# Altium schematic symbol library Esqlib.SchLib: 44 symbols (part 1 of 5)
Pins are listed as number, name and electrical type; pins without a type are passive.

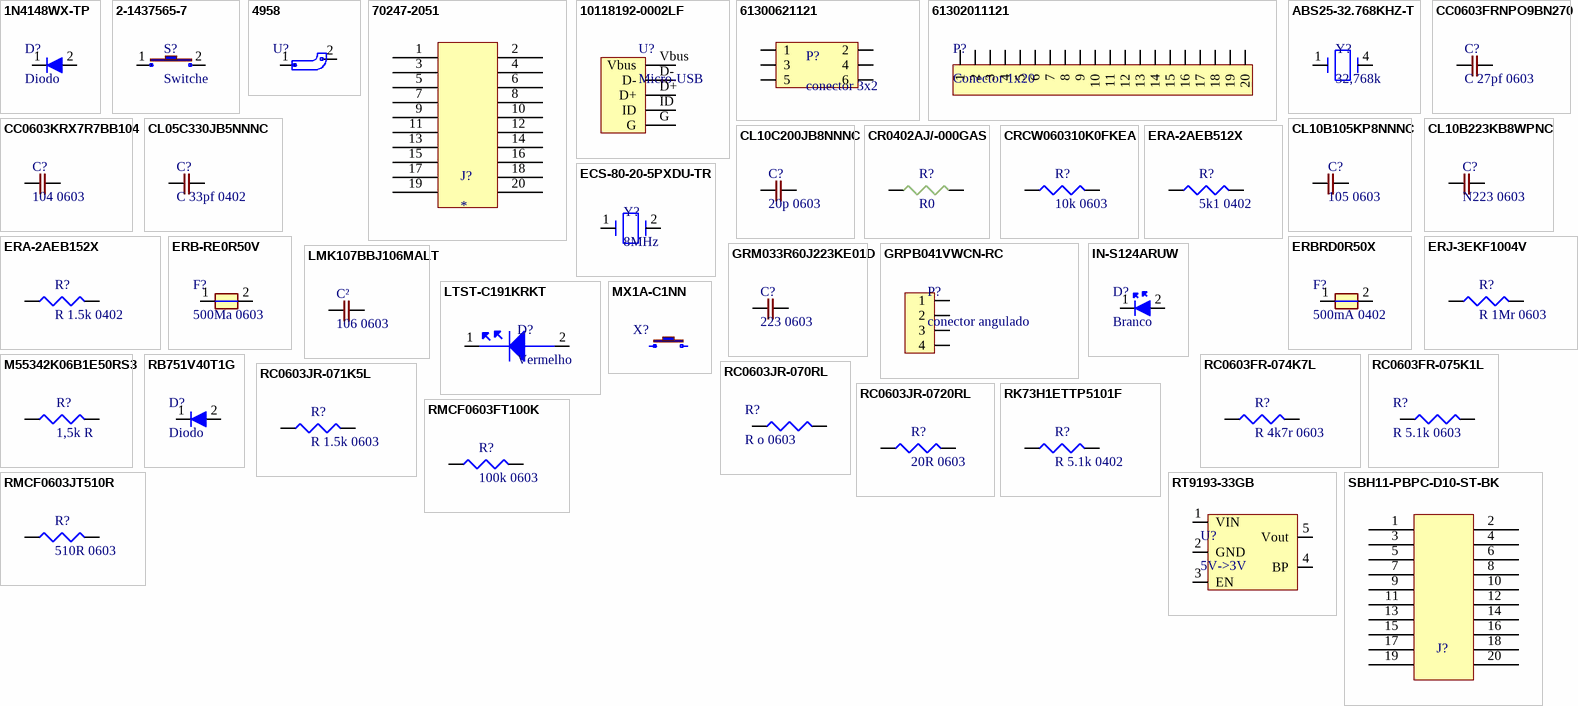
[diagram p0: symbols 1N4148WX-TP to SBH11-PBPC-D10-ST-BK]

## 1N4148WX-TP
designator D?, comment Diodo
Diode, Rectifier, Fast, Vr 100V, If 300MA, Pkg SOD-323, Vf 1V, Trr 4NS, Cj 4PF, Tj +150C; Manufacturer: MCC; Manufacturer Part Number: 1N4148WX-TP; Average Rectified Current: 150mA; Value: 2pF; Element Configuration: Single; Max Forward Surge Current (Ifsm): 2A; Max Junction Temperature (Tj): 150°C; Max Power Dissipation: 200mW; Max Reverse Leakage Current: 5µA; Max Reverse Voltage (DC): 75V; Number of Elements: 1; Peak Reverse Current: 1µA; Polarity: Standard; Supplier: DigiKey; Supplier Part Number: 1N4148WXTPMSCT-ND; RoHS: Compliant; Category: Rectifier Diodes; Stock: 1138604; Pricing: 1=0,1, 10=0,061, 100=0,0373, 500=0,02676, 1000=0,02334 (USD); China RoHS: Compliant; Current Rating: 300mA; Forward Current: 300mA; Forward Voltage: 1V; Height: 1.15mm; Lead Free: Lead Free; Length: 1.8mm; Lifecycle Status: Production; Max Operating Temperature: 150°C; Max Output current: 150mA; Max Repetitive Reverse Voltage (Vrrm): 100V; Max Surge Current: 2A; Min Operating Temperature: -55°C; Mounting Technology: Surface Mount; Pins: 2; Number of Terminals: 2; Output Current: 300mA; Packaging: Cut Tape; Peak Non-Repetitive Surge Current: 2A; Power Dissipation: 200mW; Radiation Hardening: No; REACH SVHC: Yes; Recovery Time: 4ns; Reverse Recovery Time: 4ns; Reverse Standoff Voltage: 75V; Reverse Voltage: 100V; Schedule B: 8541100070, 8541100080, 8541100080|8541100080|8541100080|8541100080|8541100080; Voltage Rating (DC): 75V; Width: 1.35mm; ComponentLink1URL: https://datasheet.octopart.com:443/1N4148WX-TP-MCC-datasheet-179877993.pdf?src-supplier=IHS; ComponentLink1Description: https://datasheet.octopart.com:443/1N4148WX-TP-MCC-datasheet-179877993.pdf?src-supplier=IHS; ComponentLink2URL: https://datasheet.octopart.com:443/1N4148WX-TP-Micro-Commercial-datasheet-72882.pdf?src-supplier=Farnell; ComponentLink2Description: https://datasheet.octopart.com:443/1N4148WX-TP-Micro-Commercial-datasheet-72882.pdf?src-supplier=Farnell; ComponentLink3URL: https://datasheet.octopart.com:443/1N4148WX-TP-MCC-datasheet-136280619.pdf?src-supplier=TME; ComponentLink3Description: https://datasheet.octopart.com:443/1N4148WX-TP-MCC-datasheet-136280619.pdf?src-supplier=TME; ComponentLink4URL: https://datasheet.octopart.com:443/1N4148WX-TP-MCC-datasheet-133511571.pdf?src-supplier=Future+Electronics; ComponentLink4Description: https://datasheet.octopart.com:443/1N4148WX-TP-MCC-datasheet-133511571.pdf?src-supplier=Future+Electronics; ComponentLink5URL: https://datasheet.octopart.com:443/1N4148WX-TP-Micro-Commercial-datasheet-13551187.pdf?src-supplier=Future+Electronics; ComponentLink5Description: https://datasheet.octopart.com:443/1N4148WX-TP-Micro-Commercial-datasheet-13551187.pdf?src-supplier=Future+Electronics; ComponentLink6URL: https://datasheet.octopart.com:443/1N4148WX-TP-MCC-datasheet-8327246.pdf?src-supplier=Future+Electronics; ComponentLink6Description: https://datasheet.octopart.com:443/1N4148WX-TP-MCC-datasheet-8327246.pdf?src-supplier=Future+Electronics; ComponentLink7URL: https://datasheet.octopart.com:443/1N4148WX-TP-MCC-datasheet-9772772.pdf?src-supplier=RS+(Formerly+Allied+Electronics); ComponentLink7Description: https://datasheet.octopart.com:443/1N4148WX-TP-MCC-datasheet-9772772.pdf?src-supplier=RS+(Formerly+Allied+Electronics); ComponentLink8URL: https://datasheet.octopart.com:443/1N4148WX-TP-MCC-datasheet-60845.pdf?src-supplier=Mouser; ComponentLink8Description: https://datasheet.octopart.com:443/1N4148WX-TP-MCC-datasheet-60845.pdf?src-supplier=Mouser
footprint Diodo
pins: 1, 2

## 2-1437565-7
designator S?, comment Switche
Alcoswitch, Switch, Tactile, Mico-Miniature, Pushbutton, SPST, Surface Mount, FSM2JSMA; Manufacturer: TE Connectivity; Manufacturer Part Number: 2-1437565-7; Manufacturer Lifecycle Status: ACTIVE; Actuator Length: 700µm; Actuator Material: Polyamide; Connector Type: SMD/SMT; Contact Current Rating: 50mA; Contact Resistance: 100mΩ; Electrical Life: 100kcycles; Max Voltage Rating (DC): 24V; Number of Positions: 1; Operating Force: 1.568N; Sealable: MOLDED; Supplier: DigiKey; Supplier Part Number: 450-1130-ND; RoHS: Compliant; Category: Pushbutton Switches; Stock: 20346; Pricing: 1=0,27, 10=0,235, 25=0,22, 100=0,1972, 250=0,1828, 750=0,16679, 1500=0,15754, 3000=0,14905, 5250=0,14276 (USD); Case/Package: SMD/SMT; China RoHS: Compliant; Color: Brown; Contact Material: Copper; Contact Plating: Silver; Depth: 10mm; ELV: Compliant; Height: 3.6mm; Housing Material: Polyamide; Insulation Resistance: 100MΩ; Lead Free: Lead Free; Length: 6mm; Life (Cycles): 100kcycles; Lifecycle Status: Production; Max Current Rating: 50mA; Max Operating Temperature: 85°C; Min Operating Temperature: -35°C; Mounting Technology: Surface Mount; Pins: 4; Packaging: Bulk; Radiation Hardening: No; REACH SVHC: Yes; Termination: Gull Wing; Throw Configuration: SPST; Voltage Rating (DC): 24V; ComponentLink1URL: https://datasheet.octopart.com:443/2-1437565-7-TE-Connectivity-datasheet-179987016.pdf?src-supplier=IHS; ComponentLink1Description: https://datasheet.octopart.com:443/2-1437565-7-TE-Connectivity-datasheet-179987016.pdf?src-supplier=IHS; ComponentLink2URL: https://datasheet.octopart.com:443/2-1437565-7-TE-Connectivity---AMP-datasheet-181273687.pdf?src-supplier=IHS; ComponentLink2Description: https://datasheet.octopart.com:443/2-1437565-7-TE-Connectivity---AMP-datasheet-181273687.pdf?src-supplier=IHS; ComponentLink3URL: https://datasheet.octopart.com:443/2-1437565-7-TE-Connectivity---Alcoswitch-datasheet-181441799.pdf?src-supplier=IHS; ComponentLink3Description: https://datasheet.octopart.com:443/2-1437565-7-TE-Connectivity---Alcoswitch-datasheet-181441799.pdf?src-supplier=IHS; ComponentLink4URL: https://datasheet.octopart.com:443/2-1437565-7-TE-Connectivity-datasheet-62056516.pdf?src-supplier=Sager+Electronics; ComponentLink4Description: https://datasheet.octopart.com:443/2-1437565-7-TE-Connectivity-datasheet-62056516.pdf?src-supplier=Sager+Electronics; ComponentLink5URL: https://datasheet.octopart.com:443/2-1437565-7-TE-Connectivity-datasheet-10294628.pdf?src-supplier=ODG+(Origin+Data+Global); ComponentLink5Description: https://datasheet.octopart.com:443/2-1437565-7-TE-Connectivity-datasheet-10294628.pdf?src-supplier=ODG+(Origin+Data+Global); ComponentLink6URL: https://datasheet.octopart.com:443/FSM2JSMA-Tyco-Electronics-datasheet-11083199.pdf?src-supplier=TE+Connectivity; ComponentLink6Description: https://datasheet.octopart.com:443/FSM2JSMA-Tyco-Electronics-datasheet-11083199.pdf?src-supplier=TE+Connectivity; ComponentLink7URL: https://datasheet.octopart.com:443/2-1437565-7-TE-Connectivity-datasheet-11868940.pdf?src-supplier=Newark; ComponentLink7Description: https://datasheet.octopart.com:443/2-1437565-7-TE-Connectivity-datasheet-11868940.pdf?src-supplier=Newark; ComponentLink8URL: https://datasheet.octopart.com:443/FSM2JSMA-Tyco-Electronics-datasheet-160371.pdf?src-supplier=Electro+Sonic; ComponentLink8Description: https://datasheet.octopart.com:443/FSM2JSMA-Tyco-Electronics-datasheet-160371.pdf?src-supplier=Electro+Sonic; ComponentLink9URL: https://datasheet.octopart.com:443/2-1437565-7-TE-Connectivity-datasheet-140613559.pdf?src-supplier=TME; ComponentLink9Description: https://datasheet.octopart.com:443/2-1437565-7-TE-Connectivity-datasheet-140613559.pdf?src-supplier=TME; ComponentLink10URL: https://datasheet.octopart.com:443/FSM2JSMA-Tyco-Electronics-datasheet-13478066.pdf?src-supplier=Farnell; ComponentLink10Description: https://datasheet.octopart.com:443/FSM2JSMA-Tyco-Electronics-datasheet-13478066.pdf?src-supplier=Farnell; ComponentLink11URL: https://datasheet.octopart.com:443/FSM2JSMA-Tyco-Electronics-datasheet-5373570.pdf?src-supplier=Farnell; ComponentLink11Description: https://datasheet.octopart.com:443/FSM2JSMA-Tyco-Electronics-datasheet-5373570.pdf?src-supplier=Farnell; ComponentLink12URL: https://datasheet.octopart.com:443/FSM2JSMA-Tyco-Electronics-datasheet-503327.pdf?src-supplier=Farnell; ComponentLink12Description: https://datasheet.octopart.com:443/FSM2JSMA-Tyco-Electronics-datasheet-503327.pdf?src-supplier=Farnell; ComponentLink13URL: https://datasheet.octopart.com:443/FSM2JSMA.-Tyco-Electronics-datasheet-528763.pdf?src-supplier=Farnell; ComponentLink13Description: https://datasheet.octopart.com:443/FSM2JSMA.-Tyco-Electronics-datasheet-528763.pdf?src-supplier=Farnell; ComponentLink14URL: https://datasheet.octopart.com:443/FSM2JSMA-Tyco-Electronics-datasheet-9919679.pdf?src-supplier=RS+(Formerly+Allied+Electronics); ComponentLink14Description: https://datasheet.octopart.com:443/FSM2JSMA-Tyco-Electronics-datasheet-9919679.pdf?src-supplier=RS+(Formerly+Allied+Electronics); ComponentLink15URL: https://datasheet.octopart.com:443/2-1437565-7-TE-Connectivity-datasheet-8220814.pdf?src-supplier=Jameco; ComponentLink15Description: https://datasheet.octopart.com:443/2-1437565-7-TE-Connectivity-datasheet-8220814.pdf?src-supplier=Jameco; ComponentLink16URL: https://datasheet.octopart.com:443/2-1437565-7-TE-Connectivity---AMP-datasheet-189108451.pdf?src-supplier=Master+Electronics; ComponentLink16Description: https://datasheet.octopart.com:443/2-1437565-7-TE-Connectivity---AMP-datasheet-189108451.pdf?src-supplier=Master+Electronics; ComponentLink17URL: http://sigma.octopart.com:80/14555870/rohs_certificate/Alcoswitch-FSM2JSMA.pdf?src-supplier=Compliance+Statements; ComponentLink17Description: http://sigma.octopart.com:80/14555870/rohs_certificate/Alcoswitch-FSM2JSMA.pdf?src-supplier=Compliance+Statements; ComponentLink18URL: http://sigma.octopart.com:80/41606613/materials_sheet/TE-Connectivity-FSM2JSMA.pdf?src-supplier=Compliance+Statements; ComponentLink18Description: http://sigma.octopart.com:80/41606613/materials_sheet/TE-Connectivity-FSM2JSMA.pdf?src-supplier=Compliance+Statements; ComponentLink19URL: http://sigma.octopart.com:80/78344504/materials_sheet/TE-Connectivity-FSM2JSMA.pdf?src-supplier=Compliance+Statements; ComponentLink19Description: http://sigma.octopart.com:80/78344504/materials_sheet/TE-Connectivity-FSM2JSMA.pdf?src-supplier=Compliance+Statements
footprint swith
pins: 1, 2

## 4958
designator U?, comment suporte hot-swap  (value not drawn)
Kailh Switch Sockets For Mx-Compatible Mechanical Keys - 20 Pack |Adafruit 4958; Manufacturer: Adafruit Industries; Manufacturer Part Number: 4958; Supplier: DigiKey; Supplier Part Number: 1528-4958-ND; Category: Switch Accessories; Stock: 66; Pricing: 1=4,95 (USD)
footprint Suporte Hot-Swap
pins: 1, 2

## 70247-2051
designator J?
Conn Shrouded Header (4 Sides) HDR 20 POS 2.54mm Solder RA Side Entry Thru-HoleC-Grid Tray; Manufacturer: Molex; Manufacturer Part Number: 70247-2051; Manufacturer Lifecycle Status: ACTIVE; Connector Type: Male Pin; Contact Resistance: 20mΩ; Current Rating: 2.5A; Gender: Male; Glow Wire Compliant: Non-compliant; Insulation Resistance: 12GΩ; Lead Length: 3.05mm; Mating Post Length: 6.1mm; Max Current Rating: 2A; Max Voltage Rating (AC): 125V; Max Voltage Rating (DC): 250V; Number of Circuits: 16; Number of Contacts: 20; Plating: Tin; Plating Thickness: 381nm; Supplier: DigiKey; Supplier Part Number: 23-0702472051-ND; RoHS: Compliant; Category: Headers and Wire Housings; Stock: 2615; Pricing: 1=3,89, 10=3,305, 100=2,809, 500=2,50744, 1000=2,38782 (USD); China RoHS: Compliant; Color: Black; Contact Gender: Male; Contact Material: Gold, Nickel; Contact Mating Length: 6.096mm; Contact Plating: Gold; Country of Origin: SK; Depth: 6.3mm; ELV: Compliant; Flammability Rating: UL94 V-0; Height: 7.6mm; Housing Color: Black; Housing Material: Polyester; Lead Free: Lead Free; Lead Pitch: 2.54mm; Length: 8.65mm; Lifecycle Status: Production; Material: Polyester; Max Operating Temperature: 120°C; Min Operating Temperature: -55°C; Mounting Technology: Surface Mount, Through Hole; Pins: 20; Number of Positions: 20; Number of Rows: 2; Orientation: Right Angle; Pitch: 2.54mm; Radiation Hardening: No; REACH SVHC: Yes; Row Spacing: 2.54mm; Terminal Pitch: 2.54mm; Termination: Solder; Voltage Rating: 250V; Voltage Rating (DC): 250V; ComponentLink1URL: https://datasheet.octopart.com:443/70247-2051-Molex-datasheet-165345562.pdf?src-supplier=IHS; ComponentLink1Description: https://datasheet.octopart.com:443/70247-2051-Molex-datasheet-165345562.pdf?src-supplier=IHS; ComponentLink2URL: https://datasheet.octopart.com:443/70247-2051-Molex-datasheet-13786369.pdf?src-supplier=Molex; ComponentLink2Description: https://datasheet.octopart.com:443/70247-2051-Molex-datasheet-13786369.pdf?src-supplier=Molex; ComponentLink3URL: https://sigma.octopart.com:443/15650526/technical_drawing/Molex-70247-2051.pdf?src-supplier=Molex; ComponentLink3Description: https://sigma.octopart.com:443/15650526/technical_drawing/Molex-70247-2051.pdf?src-supplier=Molex; ComponentLink4URL: https://datasheet.octopart.com:443/702472051-Molex-datasheet-8335392.pdf?src-supplier=Verical; ComponentLink4Description: https://datasheet.octopart.com:443/702472051-Molex-datasheet-8335392.pdf?src-supplier=Verical; ComponentLink5URL: https://datasheet.octopart.com:443/70247-2051-Molex-datasheet-154757683.pdf?src-supplier=Master+Electronics; ComponentLink5Description: https://datasheet.octopart.com:443/70247-2051-Molex-datasheet-154757683.pdf?src-supplier=Master+Electronics; ComponentLink6URL: https://datasheet.octopart.com:443/70247-2051-Molex-datasheet-62105721.pdf?src-supplier=Electro+Sonic; ComponentLink6Description: https://datasheet.octopart.com:443/70247-2051-Molex-datasheet-62105721.pdf?src-supplier=Electro+Sonic; ComponentLink7URL: https://datasheet.octopart.com:443/70247-2051-Molex-datasheet-37171976.pdf?src-supplier=Electro+Sonic; ComponentLink7Description: https://datasheet.octopart.com:443/70247-2051-Molex-datasheet-37171976.pdf?src-supplier=Electro+Sonic; ComponentLink8URL: https://datasheet.octopart.com:443/70247-2051-Molex-datasheet-28833383.pdf?src-supplier=Electro+Sonic; ComponentLink8Description: https://datasheet.octopart.com:443/70247-2051-Molex-datasheet-28833383.pdf?src-supplier=Electro+Sonic; ComponentLink9URL: https://datasheet.octopart.com:443/702472051-Molex-datasheet-8221744.pdf?src-supplier=Jameco; ComponentLink9Description: https://datasheet.octopart.com:443/702472051-Molex-datasheet-8221744.pdf?src-supplier=Jameco; ComponentLink10URL: https://datasheet.octopart.com:443/70247-2051-Molex-datasheet-141297.pdf?src-supplier=DigiKey; ComponentLink10Description: https://datasheet.octopart.com:443/70247-2051-Molex-datasheet-141297.pdf?src-supplier=DigiKey; ComponentLink11URL: http://sigma.octopart.com:80/15650546/rohs_certificate/Molex-70247-2051.pdf?src-supplier=Compliance+Statements; ComponentLink11Description: http://sigma.octopart.com:80/15650546/rohs_certificate/Molex-70247-2051.pdf?src-supplier=Compliance+Statements; ComponentLink12URL: http://sigma.octopart.com:80/reach_statement/Molex-company-74.pdf?src-supplier=Compliance+Statements; ComponentLink12Description: http://sigma.octopart.com:80/reach_statement/Molex-company-74.pdf?src-supplier=Compliance+Statements; ComponentLink13URL: http://sigma.octopart.com:80/rohs_statement/Molex-company-73.pdf?src-supplier=Compliance+Statements; ComponentLink13Description: http://sigma.octopart.com:80/rohs_statement/Molex-company-73.pdf?src-supplier=Compliance+Statements; ComponentLink14URL: http://sigma.octopart.com:80/conflict_mineral_statement/Molex-company-72.pdf?src-supplier=Compliance+Statements; ComponentLink14Description: http://sigma.octopart.com:80/conflict_mineral_statement/Molex-company-72.pdf?src-supplier=Compliance+Statements
footprint Conector 20 pinos angulado p/ programação
pins: 1, 2, 3, 4, 5, 6, 7, 8, 9, 10, 11, 12, 13, 14, 15, 16, 17, 18, 19, 20

## 10118192-0002LF
designator U?, comment Micro-USB
USB Connector, 5 Contact(s), Female, Right Angle, Surface Mount Terminal, Locking, Receptacle; Manufacturer: Amphenol Communications Solutions; Manufacturer Part Number: 10118192-0002LF; Contact Resistance: 30mΩ; Current Rating: 1.8A; Dielectric Material: Polyethylene; Insulation Resistance: 1GΩ; Number of Contacts: 5; Number of Ports: 1; USB Standard: USB 2.0; Supplier: DigiKey; Supplier Part Number: 609-5379-1-ND; RoHS: Compliant; Category: USB Connectors; Stock: 25893; Pricing: 1=0,4, 10=0,34, 25=0,3184, 50=0,3034, 100=0,2888, 250=0,27072, 500=0,25776 (USD); China RoHS: Compliant; Contact Gender: Female; Contact Material: Gold, Nickel; Gender: Receptacle; Height: 2.96mm; Lifecycle Status: Production; Max Operating Temperature: 80°C; Min Operating Temperature: -30°C; Pins: 5; Number of Rows: 1; Orientation: Right Angle; REACH SVHC: Yes; Shell Finish: Tin; Shell Material: Stainless Steel; Terminal Pitch: 650µm; ComponentLink1URL: https://datasheet.octopart.com:443/10118192-0002LF-Amphenol-Communications-Solutions-datasheet-55953129.pdf?src-supplier=Electro+Sonic; ComponentLink1Description: https://datasheet.octopart.com:443/10118192-0002LF-Amphenol-Communications-Solutions-datasheet-55953129.pdf?src-supplier=Electro+Sonic; ComponentLink2URL: https://datasheet.octopart.com:443/10118192-0002LF-Amphenol-ICC-datasheet-96019471.pdf?src-supplier=Upverter; ComponentLink2Description: https://datasheet.octopart.com:443/10118192-0002LF-Amphenol-ICC-datasheet-96019471.pdf?src-supplier=Upverter
footprint Micro usb
pins: D+, D-, G, ID, Vbus

## 61300621121
designator P?, comment conector 3x2
THT Vertical Pin Header WR-PHD, Pitch 2.54 mm, Dual Row, 6 pins; Manufacturer: Wurth Elektronik; Manufacturer Part Number: 61300621121; Connector Type: Male Pin; Contact Resistance: 20mΩ; Current Rating: 3A; Gender: Male; Number of Contacts: 6; Operating Supply Voltage: 250V; Pitch: 2.54mm; Supplier: DigiKey; Supplier Part Number: 732-5295-ND; RoHS: Compliant; Category: Headers and Wire Housings; Stock: 16905; Pricing: 1=0,51, 10=0,436, 25=0,3636, 50=0,3032, 100=0,2754, 1000=0,2502 (USD); Color: Black; Contact Material: Gold; Contact Mating Length: 5.9944mm; Contact Plating: Gold; Height: 8.89mm; Lead Pitch: 2.54mm; Max Operating Temperature: 105°C; Min Operating Temperature: -40°C; Mounting Technology: Through Hole; Pins: 6; Number of Positions: 6; Number of Rows: 2; Orientation: Vertical; Packaging: Bulk; Row Spacing: 2.54mm; Termination: Solder; Voltage Rating: 250V; ComponentLink1URL: https://datasheet.octopart.com:443/61300621121-W%C3%BCrth-Elektronik-datasheet-45185731.pdf?src-supplier=Upverter; ComponentLink1Description: https://datasheet.octopart.com:443/61300621121-W%C3%BCrth-Elektronik-datasheet-45185731.pdf?src-supplier=Upverter; ComponentLink2URL: https://datasheet.octopart.com:443/61300621121-W%C3%BCrth-Elektronik-datasheet-149524079.pdf?src-supplier=Farnell; ComponentLink2Description: https://datasheet.octopart.com:443/61300621121-W%C3%BCrth-Elektronik-datasheet-149524079.pdf?src-supplier=Farnell; ComponentLink3URL: https://datasheet.octopart.com:443/61300621121-W%C3%BCrth-Elektronik-datasheet-10693404.pdf?src-supplier=Newark; ComponentLink3Description: https://datasheet.octopart.com:443/61300621121-W%C3%BCrth-Elektronik-datasheet-10693404.pdf?src-supplier=Newark
footprint conector 3x2
pins: 1, 2, 3, 4, 5, 6

## 61302011121
designator P?, comment Conector 1x20
THT Vertical Pin Header WR-PHD, Pitch 2.54 mm, Single Row, 20 pins; Manufacturer: Wurth Elektronik; Manufacturer Part Number: 61302011121; Connector Type: Male Pin; Contact Resistance: 20mΩ; Current Rating: 3A; Gender: Male; Number of Contacts: 20; Operating Supply Voltage: 250V; Pitch: 2.54mm; Supplier: DigiKey; Supplier Part Number: 732-5329-ND; RoHS: Compliant; Category: Headers and Wire Housings; Stock: 2209; Pricing: 1=1,1, 10=0,935, 25=0,7796, 50=0,6498, 100=0,5913, 500=0,54 (USD); Color: Black; Contact Material: Copper; Contact Mating Length: 5.9944mm; Contact Plating: Gold; Lead Pitch: 2.54mm; Mounting Technology: Through Hole; Pins: 20; Number of Positions: 20; Number of Rows: 1; Orientation: Vertical; Packaging: Bulk; Termination: Solder; ComponentLink1URL: https://datasheet.octopart.com:443/61302011121-W%C3%BCrth-Elektronik-datasheet-44382959.pdf?src-supplier=Wurth+Elektronik; ComponentLink1Description: https://datasheet.octopart.com:443/61302011121-W%C3%BCrth-Elektronik-datasheet-44382959.pdf?src-supplier=Wurth+Elektronik; ComponentLink2URL: https://datasheet.octopart.com:443/61302011121-W%C3%BCrth-Elektronik-datasheet-149524181.pdf?src-supplier=Farnell; ComponentLink2Description: https://datasheet.octopart.com:443/61302011121-W%C3%BCrth-Elektronik-datasheet-149524181.pdf?src-supplier=Farnell; ComponentLink3URL: https://datasheet.octopart.com:443/61302011121-W%C3%BCrth-Elektronik-datasheet-21154836.pdf?src-supplier=element14+APAC; ComponentLink3Description: https://datasheet.octopart.com:443/61302011121-W%C3%BCrth-Elektronik-datasheet-21154836.pdf?src-supplier=element14+APAC
footprint Conector 1x20
pins: 1, 2, 3, 4, 5, 6, 7, 8, 9, 10, 11, 12, 13, 14, 15, 16, 17, 18, 19, 20

## ABS25-32.768KHZ-T
designator Y?, comment 32,768k
Crystal, Plastic Molded 32.768Khz, 12.5F, 20Ppm-40+85C, 8 X 4 X 2.5 Rohs Compliant: Yes; Manufacturer: Abracon; Manufacturer Part Number: ABS25-32.768KHZ-T; ESR (Equivalent Series Resistance): 50kΩ; Frequency Stability: 122ppm; Frequency Tolerance: 0.002%; Load Capacitance: 12.5pF; Supplier: DigiKey; Supplier Part Number: 535-9166-1-ND; RoHS: Compliant; Category: Crystals; Stock: 115441; Pricing: 1=0,48, 10=0,418, 25=0,3952, 50=0,379, 100=0,3633, 250=0,3436, 500=0,32894, 1000=0,31574 (USD); Case/Package: SMD/SMT; China RoHS: Non-Compliant; Depth: 3.8mm; Frequency: 32.768kHz; Height: 2.4892mm; Lead Free: Lead Free; Length: 8mm; Lifecycle Status: Production; Max Operating Temperature: 85°C; Min Operating Temperature: -40°C; Mounting Technology: Surface Mount; Pins: 4; Packaging: Cut Tape; Radiation Hardening: No; REACH SVHC: No; Schedule B: 8541600025, 8541600025|8541600025|8541600025|8541600025|8541600025|8541600025|8541600025|8541600025|8541600025, 8541600025|8541600025|8541600025|8541600025|8541600025|8541600025|8541600025|8541600025|8541600025|8541600025, 8541600025|8541600025|8541600025|8541600025|8541600025|8541600025|8541600025|8541600025|8541600025|8541600025|8541600025; ESR: 50kΩ; Termination: SMD/SMT; Tolerance: 0.002%; Width: 3.81mm; ComponentLink1URL: https://datasheet.octopart.com:443/ABS25-32.768KHZ-T-Abracon-datasheet-166807298.pdf?src-supplier=IHS; ComponentLink1Description: https://datasheet.octopart.com:443/ABS25-32.768KHZ-T-Abracon-datasheet-166807298.pdf?src-supplier=IHS; ComponentLink2URL: https://datasheet.octopart.com:443/ABS25-32.768KHZ-T-Abracon-datasheet-181954792.pdf?src-supplier=IHS; ComponentLink2Description: https://datasheet.octopart.com:443/ABS25-32.768KHZ-T-Abracon-datasheet-181954792.pdf?src-supplier=IHS; ComponentLink3URL: https://datasheet.octopart.com:443/ABS25-32.768KHZ-T-Abracon-datasheet-103055944.pdf?src-supplier=JRH+Electronics; ComponentLink3Description: https://datasheet.octopart.com:443/ABS25-32.768KHZ-T-Abracon-datasheet-103055944.pdf?src-supplier=JRH+Electronics; ComponentLink4URL: https://datasheet.octopart.com:443/ABS25-32.768KHZ-T-Abracon-datasheet-11036012.pdf?src-supplier=Sager+Electronics; ComponentLink4Description: https://datasheet.octopart.com:443/ABS25-32.768KHZ-T-Abracon-datasheet-11036012.pdf?src-supplier=Sager+Electronics; ComponentLink5URL: https://datasheet.octopart.com:443/ABS25-32.768KHZ-T-Abracon-datasheet-8792182.pdf?src-supplier=Sager+Electronics; ComponentLink5Description: https://datasheet.octopart.com:443/ABS25-32.768KHZ-T-Abracon-datasheet-8792182.pdf?src-supplier=Sager+Electronics; ComponentLink6URL: https://datasheet.octopart.com:443/ABS25-32.768KHZ-T-Abracon-datasheet-8332207.pdf?src-supplier=Sager+Electronics; ComponentLink6Description: https://datasheet.octopart.com:443/ABS25-32.768KHZ-T-Abracon-datasheet-8332207.pdf?src-supplier=Sager+Electronics; ComponentLink7URL: https://datasheet.octopart.com:443/ABS25-32.768KHZ-T-Abracon-datasheet-32780516.pdf?src-supplier=Newark; ComponentLink7Description: https://datasheet.octopart.com:443/ABS25-32.768KHZ-T-Abracon-datasheet-32780516.pdf?src-supplier=Newark; ComponentLink8URL: https://datasheet.octopart.com:443/ABS25-32.768KHZ-T-Abracon-datasheet-15206622.pdf?src-supplier=TME; ComponentLink8Description: https://datasheet.octopart.com:443/ABS25-32.768KHZ-T-Abracon-datasheet-15206622.pdf?src-supplier=TME; ComponentLink9URL: https://datasheet.octopart.com:443/ABS25-32.768KHZ-T-Abracon-datasheet-7875.pdf?src-supplier=DigiKey; ComponentLink9Description: https://datasheet.octopart.com:443/ABS25-32.768KHZ-T-Abracon-datasheet-7875.pdf?src-supplier=DigiKey; ComponentLink10URL: https://datasheet.octopart.com:443/ABS25-32.768KHZ-T-Abracon-datasheet-164982.pdf?src-supplier=Mouser; ComponentLink10Description: https://datasheet.octopart.com:443/ABS25-32.768KHZ-T-Abracon-datasheet-164982.pdf?src-supplier=Mouser; ComponentLink11URL: https://datasheet.octopart.com:443/ABS25-32.768KHZ-T-Abracon-datasheet-72903.pdf?src-supplier=RS+(Formerly+Allied+Electronics); ComponentLink11Description: https://datasheet.octopart.com:443/ABS25-32.768KHZ-T-Abracon-datasheet-72903.pdf?src-supplier=RS+(Formerly+Allied+Electronics); ComponentLink12URL: https://datasheet.octopart.com:443/ABS25-32.768KHZ-T-Abracon-datasheet-3537.pdf?src-supplier=Farnell; ComponentLink12Description: https://datasheet.octopart.com:443/ABS25-32.768KHZ-T-Abracon-datasheet-3537.pdf?src-supplier=Farnell; ComponentLink13URL: http://sigma.octopart.com:80/conflict_mineral_statement/Abracon-company-27.pdf?src-supplier=Compliance+Statements; ComponentLink13Description: http://sigma.octopart.com:80/conflict_mineral_statement/Abracon-company-27.pdf?src-supplier=Compliance+Statements
footprint cristal de 32,768k
pins: 1, 4

## CC0603FRNPO9BN270
designator C?, comment C 27pf 0603
0603 27 pF 50 V ±1 % Tolerance NP0 SMT Multilayer Ceramic Capacitor; Manufacturer: Yageo Group; Manufacturer Part Number: CC0603FRNPO9BN270; Dielectric: C0G; Insulation Resistance: 10GΩ; Tolerance: 1%; Voltage: 50V; Supplier: DigiKey; Supplier Part Number: 311-3892-1-ND; RoHS: Compliant; Category: Ceramic Capacitors; Stock: 26604; Pricing: 1=0,15, 10=0,086, 50=0,0606, 100=0,0527, 500=0,03964, 1000=0,03562 (USD); Value: 27pF; Case/Package: 0603; Case Code (Imperial): 0603; Case Code (Metric): 1608; China RoHS: Compliant; Composition: Ceramic; Depth: 800µm; Dielectric Material: Ceramic; Halogen Free: Halogen Free; Height: 800µm; Lead Free: Lead Free; Length: 1.6mm; Lifecycle Status: Production; Max Operating Temperature: 125°C; Min Operating Temperature: -55°C; Mounting Technology: Surface Mount; Number of Terminals: 2; Packaging: Tape and Reel; Radiation Hardening: No; REACH SVHC: Yes; Schedule B: 8532240020, 8532240020|8532240020|8532240020|8532240020|8532240020; Termination: SMD/SMT; Thickness: 889µm; Voltage Rating: 50V; Voltage Rating (DC): 50V; Width: 800µm; ComponentLink1URL: https://datasheet.octopart.com:443/CC0603FRNPO9BN270-Yageo-datasheet-182140217.pdf?src-supplier=IHS; ComponentLink1Description: https://datasheet.octopart.com:443/CC0603FRNPO9BN270-Yageo-datasheet-182140217.pdf?src-supplier=IHS; ComponentLink2URL: https://datasheet.octopart.com:443/CC0603FRNPO9BN270-Yageo-datasheet-151948684.pdf?src-supplier=JRH+Electronics; ComponentLink2Description: https://datasheet.octopart.com:443/CC0603FRNPO9BN270-Yageo-datasheet-151948684.pdf?src-supplier=JRH+Electronics; ComponentLink3URL: https://datasheet.octopart.com:443/CC0603FRNPO9BN270-Yageo-datasheet-181967889.pdf?src-supplier=Farnell; ComponentLink3Description: https://datasheet.octopart.com:443/CC0603FRNPO9BN270-Yageo-datasheet-181967889.pdf?src-supplier=Farnell; ComponentLink4URL: https://datasheet.octopart.com:443/CC0603FRNPO9BN270-Yageo-datasheet-137875056.pdf?src-supplier=Future+Electronics; ComponentLink4Description: https://datasheet.octopart.com:443/CC0603FRNPO9BN270-Yageo-datasheet-137875056.pdf?src-supplier=Future+Electronics; ComponentLink5URL: https://datasheet.octopart.com:443/CC0603FRNPO9BN270-Yageo-datasheet-136957424.pdf?src-supplier=Future+Electronics; ComponentLink5Description: https://datasheet.octopart.com:443/CC0603FRNPO9BN270-Yageo-datasheet-136957424.pdf?src-supplier=Future+Electronics; ComponentLink6URL: https://datasheet.octopart.com:443/CC0603FRNPO9BN270-Yageo-datasheet-137700082.pdf?src-supplier=Future+Electronics; ComponentLink6Description: https://datasheet.octopart.com:443/CC0603FRNPO9BN270-Yageo-datasheet-137700082.pdf?src-supplier=Future+Electronics; ComponentLink7URL: https://datasheet.octopart.com:443/CC0603FRNPO9BN270-Yageo-datasheet-78855684.pdf?src-supplier=Future+Electronics; ComponentLink7Description: https://datasheet.octopart.com:443/CC0603FRNPO9BN270-Yageo-datasheet-78855684.pdf?src-supplier=Future+Electronics; ComponentLink8URL: https://datasheet.octopart.com:443/CC0603FRNPO9BN270-Yageo-datasheet-16730043.pdf?src-supplier=Future+Electronics; ComponentLink8Description: https://datasheet.octopart.com:443/CC0603FRNPO9BN270-Yageo-datasheet-16730043.pdf?src-supplier=Future+Electronics; ComponentLink9URL: https://datasheet.octopart.com:443/CC0603FRNPO9BN270-Yageo-datasheet-12589826.pdf?src-supplier=Future+Electronics; ComponentLink9Description: https://datasheet.octopart.com:443/CC0603FRNPO9BN270-Yageo-datasheet-12589826.pdf?src-supplier=Future+Electronics; ComponentLink10URL: https://datasheet.octopart.com:443/CC0603FRNPO9BN270-Yageo-datasheet-10406438.pdf?src-supplier=Future+Electronics; ComponentLink10Description: https://datasheet.octopart.com:443/CC0603FRNPO9BN270-Yageo-datasheet-10406438.pdf?src-supplier=Future+Electronics; ComponentLink11URL: https://datasheet.octopart.com:443/CC0603FRNPO9BN270-Yageo-datasheet-8817079.pdf?src-supplier=Future+Electronics; ComponentLink11Description: https://datasheet.octopart.com:443/CC0603FRNPO9BN270-Yageo-datasheet-8817079.pdf?src-supplier=Future+Electronics; ComponentLink12URL: https://datasheet.octopart.com:443/CC0603FRNPO9BN270-Yageo-datasheet-8324240.pdf?src-supplier=Future+Electronics; ComponentLink12Description: https://datasheet.octopart.com:443/CC0603FRNPO9BN270-Yageo-datasheet-8324240.pdf?src-supplier=Future+Electronics; ComponentLink13URL: https://datasheet.octopart.com:443/CC0603FRNPO9BN270-Yageo-datasheet-504625.pdf?src-supplier=Future+Electronics; ComponentLink13Description: https://datasheet.octopart.com:443/CC0603FRNPO9BN270-Yageo-datasheet-504625.pdf?src-supplier=Future+Electronics; ComponentLink14URL: https://datasheet.octopart.com:443/CC0603FRNPO9BN270-Yageo-datasheet-5321569.pdf?src-supplier=Future+Electronics; ComponentLink14Description: https://datasheet.octopart.com:443/CC0603FRNPO9BN270-Yageo-datasheet-5321569.pdf?src-supplier=Future+Electronics; ComponentLink15URL: http://sigma.octopart.com:80/conflict_mineral_statement/Yageo-company-3.pdf?src-supplier=Compliance+Statements; ComponentLink15Description: http://sigma.octopart.com:80/conflict_mineral_statement/Yageo-company-3.pdf?src-supplier=Compliance+Statements; ComponentLink16URL: http://sigma.octopart.com:80/rohs_statement/Yageo-company-2.pdf?src-supplier=Compliance+Statements; ComponentLink16Description: http://sigma.octopart.com:80/rohs_statement/Yageo-company-2.pdf?src-supplier=Compliance+Statements
footprint c 27pf 0603
pins: 1, 2

## CC0603KRX7R7BB104
designator C?, comment 104 0603
16V 100nF X7R ±10% 0603 Multilayer Ceramic Capacitors MLCC - SMD/SMT ROHS; Manufacturer: Yageo Group; Manufacturer Part Number: CC0603KRX7R7BB104; Insulation Resistance: 100GΩ; Supplier: DigiKey; Supplier Part Number: 311-1088-1-ND; RoHS: Compliant; Category: Ceramic Capacitors; Stock: 6931735; Pricing: 1=0,08, 10=0,008, 50=0,0076, 100=0,0072, 500=0,00602 (USD); Value: 100nF; Case/Package: 0603; Case Code (Imperial): 0603; Case Code (Metric): 1608; China RoHS: Compliant; Composition: Ceramic; Depth: 800µm; Dielectric: X7R; Dielectric Material: Ceramic; Halogen Free: Halogen Free; Height: 800µm; Lead Free: Lead Free; Length: 1.6mm; Lifecycle Status: Production; Material: Ceramic; Max Operating Temperature: 125°C; Min Operating Temperature: -55°C; Mounting Technology: Surface Mount; Pins: 2; Number of Terminals: 2; Radiation Hardening: No; REACH SVHC: Yes; Schedule B: 8532240020, 8532240020|8532240020, 8532240020|8532240020|8532240020, 8532240020|8532240020|8532240020|8532240020; Termination: SMD/SMT; Thickness: 889µm; Tolerance: 10%; Voltage: 16V; Voltage Rating: 16V; Voltage Rating (DC): 16V; Width: 800µm; ComponentLink1URL: https://datasheet.octopart.com:443/CC0603KRX7R7BB104-Yageo-datasheet-177165144.pdf?src-supplier=IHS; ComponentLink1Description: https://datasheet.octopart.com:443/CC0603KRX7R7BB104-Yageo-datasheet-177165144.pdf?src-supplier=IHS; ComponentLink2URL: https://datasheet.octopart.com:443/CC0603KRX7R7BB104-Yageo-datasheet-82288757.pdf?src-supplier=Upverter; ComponentLink2Description: https://datasheet.octopart.com:443/CC0603KRX7R7BB104-Yageo-datasheet-82288757.pdf?src-supplier=Upverter; ComponentLink3URL: https://datasheet.octopart.com:443/CC0603KRX7R7BB104-Yageo-datasheet-182050803.pdf?src-supplier=Newark; ComponentLink3Description: https://datasheet.octopart.com:443/CC0603KRX7R7BB104-Yageo-datasheet-182050803.pdf?src-supplier=Newark; ComponentLink4URL: https://datasheet.octopart.com:443/CC0603KRX7R7BB104-Yageo-datasheet-181968638.pdf?src-supplier=Newark; ComponentLink4Description: https://datasheet.octopart.com:443/CC0603KRX7R7BB104-Yageo-datasheet-181968638.pdf?src-supplier=Newark; ComponentLink5URL: https://datasheet.octopart.com:443/CC0603KRX7R7BB104-Phycomp-datasheet-499490.pdf?src-supplier=Newark; ComponentLink5Description: https://datasheet.octopart.com:443/CC0603KRX7R7BB104-Phycomp-datasheet-499490.pdf?src-supplier=Newark; ComponentLink6URL: https://datasheet.octopart.com:443/CC0603KRX7R7BB104-Yageo-datasheet-62336348.pdf?src-supplier=Newark; ComponentLink6Description: https://datasheet.octopart.com:443/CC0603KRX7R7BB104-Yageo-datasheet-62336348.pdf?src-supplier=Newark; ComponentLink7URL: https://datasheet.octopart.com:443/CC0603KRX7R7BB104-Yageo-datasheet-15895757.pdf?src-supplier=Newark; ComponentLink7Description: https://datasheet.octopart.com:443/CC0603KRX7R7BB104-Yageo-datasheet-15895757.pdf?src-supplier=Newark; ComponentLink8URL: https://datasheet.octopart.com/CC0603KRX7R7BB104-Yageo-datasheet-10883670.pdf; ComponentLink8Description: https://datasheet.octopart.com/CC0603KRX7R7BB104-Yageo-datasheet-10883670.pdf; ComponentLink9URL: https://datasheet.octopart.com/CC0603KRX7R7BB104-Yageo-datasheet-12526321.pdf; ComponentLink9Description: https://datasheet.octopart.com/CC0603KRX7R7BB104-Yageo-datasheet-12526321.pdf; ComponentLink10URL: https://datasheet.octopart.com:443/CC0603KRX7R7BB104-Yageo-datasheet-151948686.pdf?src-supplier=Farnell; ComponentLink10Description: https://datasheet.octopart.com:443/CC0603KRX7R7BB104-Yageo-datasheet-151948686.pdf?src-supplier=Farnell; ComponentLink11URL: https://datasheet.octopart.com:443/CC0603KRX7R7BB104-Phycomp-datasheet-500777.pdf?src-supplier=Farnell; ComponentLink11Description: https://datasheet.octopart.com:443/CC0603KRX7R7BB104-Phycomp-datasheet-500777.pdf?src-supplier=Farnell; ComponentLink12URL: https://datasheet.octopart.com:443/CC0603KRX7R7BB104-Phycomp-datasheet-519481.pdf?src-supplier=element14; ComponentLink12Description: https://datasheet.octopart.com:443/CC0603KRX7R7BB104-Phycomp-datasheet-519481.pdf?src-supplier=element14; ComponentLink13URL: https://datasheet.octopart.com:443/CC0603KRX7R7BB104-Yageo-datasheet-8701427.pdf?src-supplier=element14; ComponentLink13Description: https://datasheet.octopart.com:443/CC0603KRX7R7BB104-Yageo-datasheet-8701427.pdf?src-supplier=element14; ComponentLink14URL: https://datasheet.octopart.com:443/CC0603KRX7R7BB104-Yageo-datasheet-5301394.pdf?src-supplier=element14; ComponentLink14Description: https://datasheet.octopart.com:443/CC0603KRX7R7BB104-Yageo-datasheet-5301394.pdf?src-supplier=element14; ComponentLink15URL: https://datasheet.octopart.com:443/CC0603KRX7R7BB104-Yageo-datasheet-166511530.pdf?src-supplier=Future+Electronics; ComponentLink15Description: https://datasheet.octopart.com:443/CC0603KRX7R7BB104-Yageo-datasheet-166511530.pdf?src-supplier=Future+Electronics; ComponentLink16URL: https://datasheet.octopart.com:443/CC0603KRX7R7BB104-Yageo-datasheet-137700082.pdf?src-supplier=Future+Electronics; ComponentLink16Description: https://datasheet.octopart.com:443/CC0603KRX7R7BB104-Yageo-datasheet-137700082.pdf?src-supplier=Future+Electronics; ComponentLink17URL: https://datasheet.octopart.com:443/CC0603KRX7R7BB104-Yageo-datasheet-137700084.pdf?src-supplier=Future+Electronics; ComponentLink17Description: https://datasheet.octopart.com:443/CC0603KRX7R7BB104-Yageo-datasheet-137700084.pdf?src-supplier=Future+Electronics; ComponentLink18URL: https://datasheet.octopart.com:443/CC0603KRX7R7BB104-Yageo-datasheet-27626582.pdf?src-supplier=Future+Electronics; ComponentLink18Description: https://datasheet.octopart.com:443/CC0603KRX7R7BB104-Yageo-datasheet-27626582.pdf?src-supplier=Future+Electronics; ComponentLink19URL: https://datasheet.octopart.com:443/CC0603KRX7R7BB104-Yageo-datasheet-10911834.pdf?src-supplier=Future+Electronics; ComponentLink19Description: https://datasheet.octopart.com:443/CC0603KRX7R7BB104-Yageo-datasheet-10911834.pdf?src-supplier=Future+Electronics; ComponentLink20URL: https://datasheet.octopart.com:443/CC0603KRX7R7BB104-Yageo-datasheet-8324442.pdf?src-supplier=Future+Electronics; ComponentLink20Description: https://datasheet.octopart.com:443/CC0603KRX7R7BB104-Yageo-datasheet-8324442.pdf?src-supplier=Future+Electronics; ComponentLink21URL: https://datasheet.octopart.com:443/CC0603KRX7R7BB104-Yageo-Group-datasheet-165992755.pdf?src-supplier=ODG+(Origin+Data+Global); ComponentLink21Description: https://datasheet.octopart.com:443/CC0603KRX7R7BB104-Yageo-Group-datasheet-165992755.pdf?src-supplier=ODG+(Origin+Data+Global); ComponentLink22URL: https://datasheet.octopart.com:443/CC0603KRX7R7BB104-Yageo-datasheet-140260305.pdf?src-supplier=SOS+electronic; ComponentLink22Description: https://datasheet.octopart.com:443/CC0603KRX7R7BB104-Yageo-datasheet-140260305.pdf?src-supplier=SOS+electronic; ComponentLink23URL: https://datasheet.octopart.com:443/CC0603KRX7R7BB104-Yageo-datasheet-178018956.pdf?src-supplier=Burklin+Elektronik; ComponentLink23Description: https://datasheet.octopart.com:443/CC0603KRX7R7BB104-Yageo-datasheet-178018956.pdf?src-supplier=Burklin+Elektronik; ComponentLink24URL: https://datasheet.octopart.com:443/CC0603KRX7R7BB104-Yageo-datasheet-17600895.pdf?src-supplier=TME; ComponentLink24Description: https://datasheet.octopart.com:443/CC0603KRX7R7BB104-Yageo-datasheet-17600895.pdf?src-supplier=TME; ComponentLink25URL: https://datasheet.octopart.com:443/CC0603KRX7R7BB104-Yageo-datasheet-118396.pdf?src-supplier=DigiKey; ComponentLink25Description: https://datasheet.octopart.com:443/CC0603KRX7R7BB104-Yageo-datasheet-118396.pdf?src-supplier=DigiKey; ComponentLink26URL: http://sigma.octopart.com:80/rohs_statement/Surface-Mount-Ceramic-Multilayer-Capacitors%3B-General-Purpose-%26-High-Capacitance-Class-2%2C-X7R-Yageo-family-124.pdf?src-supplier=Compliance+Statements; ComponentLink26Description: http://sigma.octopart.com:80/rohs_statement/Surface-Mount-Ceramic-Multilayer-Capacitors%3B-General-Purpose-%26-High-Capacitance-Class-2%2C-X7R-Yageo-family-124.pdf?src-supplier=Compliance+Statements; ComponentLink27URL: http://sigma.octopart.com:80/reach_statement/Surface-Mount-Ceramic-Multilayer-Capacitors%3B-General-Purpose-%26-High-Capacitance-Class-2%2C-X7R-Yageo-family-125.pdf?src-supplier=Compliance+Statements; ComponentLink27Description: http://sigma.octopart.com:80/reach_statement/Surface-Mount-Ceramic-Multilayer-Capacitors%3B-General-Purpose-%26-High-Capacitance-Class-2%2C-X7R-Yageo-family-125.pdf?src-supplier=Compliance+Statements; ComponentLink28URL: http://sigma.octopart.com:80/conflict_mineral_statement/Yageo-company-3.pdf?src-supplier=Compliance+Statements; ComponentLink28Description: http://sigma.octopart.com:80/conflict_mineral_statement/Yageo-company-3.pdf?src-supplier=Compliance+Statements; ComponentLink29URL: http://sigma.octopart.com:80/rohs_statement/Yageo-company-2.pdf?src-supplier=Compliance+Statements; ComponentLink29Description: http://sigma.octopart.com:80/rohs_statement/Yageo-company-2.pdf?src-supplier=Compliance+Statements
footprint Cap 104 0603
pins: 1, 2

## CL05C330JB5NNNC
designator C?, comment C 33pf 0402
Ceramic Capacitor, Multilayer, Ceramic, 50V, 5% +Tol, 5% -Tol, C0G, 0+-30ppm/Celcius TC, 33pF, Surface Mount, 0402 inch; Manufacturer: Samsung Electro-Mechanics; Manufacturer Part Number: CL05C330JB5NNNC; Temperature Coefficient: 30ppm/°C; Supplier: DigiKey; Supplier Part Number: 1276-1272-1-ND; RoHS: Compliant; Category: Ceramic Capacitors; Stock: 3173526; Pricing: 1=0,08, 10=0,003 (USD); Value: 33pF; Case/Package: 0402; Case Code (Imperial): 0402; Case Code (Metric): 1005; China RoHS: Compliant; Contact Plating: Tin; Depth: 500µm; Dielectric: C0G; Dielectric Material: Ceramic; Height: 550µm; Lead Free: Lead Free; Length: 1mm; Lifecycle Status: Production; Material: Ceramic; Max Operating Temperature: 125°C; Min Operating Temperature: -55°C; Mounting Technology: Surface Mount; Number of Terminals: 2; Radiation Hardening: No; REACH SVHC: Yes; Schedule B: 8532240020, 8532240020|8532240020, 8532240020|8532240020|8532240020, 8532240020|8532240020|8532240020|8532240020; Thickness: 558.8µm; Tolerance: 5%; Voltage: 50V; Voltage Rating: 50V; Voltage Rating (DC): 50V; Width: 500µm; ComponentLink1URL: https://datasheet.octopart.com:443/CL05C330JB5NNNC-Samsung-Electro-Mechanics-datasheet-136482269.pdf?src-supplier=IHS; ComponentLink1Description: https://datasheet.octopart.com:443/CL05C330JB5NNNC-Samsung-Electro-Mechanics-datasheet-136482269.pdf?src-supplier=IHS; ComponentLink2URL: https://datasheet.octopart.com:443/CL05C330JB5NNNC-Samsung-Electro-Mechanics-datasheet-141347004.pdf?src-supplier=Samsung+SCT; ComponentLink2Description: https://datasheet.octopart.com:443/CL05C330JB5NNNC-Samsung-Electro-Mechanics-datasheet-141347004.pdf?src-supplier=Samsung+SCT; ComponentLink3URL: https://datasheet.octopart.com:443/CL05C330JB5NNNC-Samsung-Electro-Mechanics-datasheet-110326805.pdf?src-supplier=Future+Electronics; ComponentLink3Description: https://datasheet.octopart.com:443/CL05C330JB5NNNC-Samsung-Electro-Mechanics-datasheet-110326805.pdf?src-supplier=Future+Electronics; ComponentLink4URL: https://datasheet.octopart.com:443/CL05C330JB5NNNC-Samsung-Electro-Mechanics-datasheet-81461748.pdf?src-supplier=Future+Electronics; ComponentLink4Description: https://datasheet.octopart.com:443/CL05C330JB5NNNC-Samsung-Electro-Mechanics-datasheet-81461748.pdf?src-supplier=Future+Electronics; ComponentLink5URL: https://datasheet.octopart.com:443/CL05C330JB5NNNC-Samsung-datasheet-12522687.pdf?src-supplier=Future+Electronics; ComponentLink5Description: https://datasheet.octopart.com:443/CL05C330JB5NNNC-Samsung-datasheet-12522687.pdf?src-supplier=Future+Electronics; ComponentLink6URL: https://datasheet.octopart.com:443/CL05C330JB5NNNC-Samsung-datasheet-26589087.pdf?src-supplier=Future+Electronics; ComponentLink6Description: https://datasheet.octopart.com:443/CL05C330JB5NNNC-Samsung-datasheet-26589087.pdf?src-supplier=Future+Electronics; ComponentLink7URL: https://datasheet.octopart.com:443/CL05C330JB5NNNC-Samsung-Electro-Mechanics-datasheet-149156440.pdf?src-supplier=Future+Electronics; ComponentLink7Description: https://datasheet.octopart.com:443/CL05C330JB5NNNC-Samsung-Electro-Mechanics-datasheet-149156440.pdf?src-supplier=Future+Electronics; ComponentLink8URL: https://datasheet.octopart.com:443/CL05C330JB5NNNC-Samsung-datasheet-37081328.pdf?src-supplier=Future+Electronics; ComponentLink8Description: https://datasheet.octopart.com:443/CL05C330JB5NNNC-Samsung-datasheet-37081328.pdf?src-supplier=Future+Electronics; ComponentLink9URL: https://datasheet.octopart.com/CL05C330JB5NNNC-Samsung-Electro-Mechanics-datasheet-97040617.pdf; ComponentLink9Description: https://datasheet.octopart.com/CL05C330JB5NNNC-Samsung-Electro-Mechanics-datasheet-97040617.pdf; ComponentLink10URL: https://datasheet.octopart.com/CL05C330JB5NNNC-Samsung-Electro-Mechanics-datasheet-8324245.pdf; ComponentLink10Description: https://datasheet.octopart.com/CL05C330JB5NNNC-Samsung-Electro-Mechanics-datasheet-8324245.pdf; ComponentLink11URL: https://datasheet.octopart.com:443/CL05C330JB5NNNC-Samsung-datasheet-8326407.pdf?src-supplier=TME; ComponentLink11Description: https://datasheet.octopart.com:443/CL05C330JB5NNNC-Samsung-datasheet-8326407.pdf?src-supplier=TME
footprint C 33pf 0402
pins: 1, 2

## CL10B105KP8NNNC
designator C?, comment 105 0603
10V 1uF X7R ±10% 0603 Multilayer Ceramic Capacitors MLCC - SMD/SMT ROHS; Manufacturer: Samsung Electro-Mechanics; Manufacturer Part Number: CL10B105KP8NNNC; Value: 1µF; Supplier: DigiKey; Supplier Part Number: 1276-1946-1-ND; RoHS: Compliant; Category: Ceramic Capacitors; Stock: 4700118; Pricing: 1=0,08, 10=0,005 (USD); Case/Package: 0603; Case Code (Imperial): 0603; Case Code (Metric): 1608; China RoHS: Compliant; Contact Plating: Tin; Depth: 800µm; Dielectric: X7R; Dielectric Material: Ceramic; Height: 900µm; Lead Free: Lead Free; Length: 1.6mm; Lifecycle Status: Production; Material: Ceramic; Max Operating Temperature: 125°C; Min Operating Temperature: -55°C; Mounting Technology: Surface Mount; Number of Terminals: 2; Radiation Hardening: No; REACH SVHC: Yes; Schedule B: 8532240020, 8532240020|8532240020, 8532240020|8532240020|8532240020, 8532240020|8532240020|8532240020|8532240020; Thickness: 889µm; Tolerance: 10%; Voltage Rating: 10V; Voltage Rating (DC): 10V; Width: 800µm; ComponentLink1URL: https://datasheet.octopart.com:443/CL10B105KP8NNNC-Samsung-Electro-Mechanics-datasheet-136482318.pdf?src-supplier=IHS; ComponentLink1Description: https://datasheet.octopart.com:443/CL10B105KP8NNNC-Samsung-Electro-Mechanics-datasheet-136482318.pdf?src-supplier=IHS; ComponentLink2URL: https://datasheet.octopart.com:443/CL10B105KP8NNNC-Samsung-Electro-Mechanics-datasheet-116051279.pdf?src-supplier=Future+Electronics; ComponentLink2Description: https://datasheet.octopart.com:443/CL10B105KP8NNNC-Samsung-Electro-Mechanics-datasheet-116051279.pdf?src-supplier=Future+Electronics; ComponentLink3URL: https://datasheet.octopart.com:443/CL10B105KP8NNNC-Samsung-Electro-Mechanics-datasheet-81461854.pdf?src-supplier=Future+Electronics; ComponentLink3Description: https://datasheet.octopart.com:443/CL10B105KP8NNNC-Samsung-Electro-Mechanics-datasheet-81461854.pdf?src-supplier=Future+Electronics; ComponentLink4URL: https://datasheet.octopart.com:443/CL10B105KP8NNNC-Samsung-datasheet-13325309.pdf?src-supplier=Future+Electronics; ComponentLink4Description: https://datasheet.octopart.com:443/CL10B105KP8NNNC-Samsung-datasheet-13325309.pdf?src-supplier=Future+Electronics; ComponentLink5URL: https://datasheet.octopart.com:443/CL10B105KP8NNNC-Samsung-datasheet-26669024.pdf?src-supplier=Future+Electronics; ComponentLink5Description: https://datasheet.octopart.com:443/CL10B105KP8NNNC-Samsung-datasheet-26669024.pdf?src-supplier=Future+Electronics; ComponentLink6URL: https://datasheet.octopart.com:443/CL10B105KP8NNNC-Samsung-Electro-Mechanics-datasheet-149136800.pdf?src-supplier=Future+Electronics; ComponentLink6Description: https://datasheet.octopart.com:443/CL10B105KP8NNNC-Samsung-Electro-Mechanics-datasheet-149136800.pdf?src-supplier=Future+Electronics; ComponentLink7URL: https://datasheet.octopart.com:443/CL10B105KP8NNNC-Samsung-datasheet-37081328.pdf?src-supplier=Future+Electronics; ComponentLink7Description: https://datasheet.octopart.com:443/CL10B105KP8NNNC-Samsung-datasheet-37081328.pdf?src-supplier=Future+Electronics; ComponentLink8URL: https://datasheet.octopart.com/CL10B105KP8NNNC-Samsung-Electro-Mechanics-datasheet-97040617.pdf; ComponentLink8Description: https://datasheet.octopart.com/CL10B105KP8NNNC-Samsung-Electro-Mechanics-datasheet-97040617.pdf; ComponentLink9URL: https://datasheet.octopart.com/CL10B105KP8NNNC-Samsung-Electro-Mechanics-datasheet-8324245.pdf; ComponentLink9Description: https://datasheet.octopart.com/CL10B105KP8NNNC-Samsung-Electro-Mechanics-datasheet-8324245.pdf; ComponentLink10URL: https://datasheet.octopart.com:443/CL10B105KP8NNNC-Samsung-Electro-Mechanics-datasheet-11881110.pdf?src-supplier=Arrow+Electronics; ComponentLink10Description: https://datasheet.octopart.com:443/CL10B105KP8NNNC-Samsung-Electro-Mechanics-datasheet-11881110.pdf?src-supplier=Arrow+Electronics; ComponentLink11URL: https://datasheet.octopart.com:443/CL10B105KP8NNNC-Samsung-datasheet-59220082.pdf?src-supplier=TME; ComponentLink11Description: https://datasheet.octopart.com:443/CL10B105KP8NNNC-Samsung-datasheet-59220082.pdf?src-supplier=TME
footprint cap 105 0603
pins: 1, 2